# Altium footprint library WL-T7DS.PcbLib: 3 footprints
Each footprint in its own frame and in the unit in brackets; x right, y up, seen from the top. Pads: shape width x height; smd on the part's side, far side on the other; paste and mask are expansions set on the pad; w line width, h text height; cw(c..) or ccw(c..) is an arc to the next point about the centre after c.
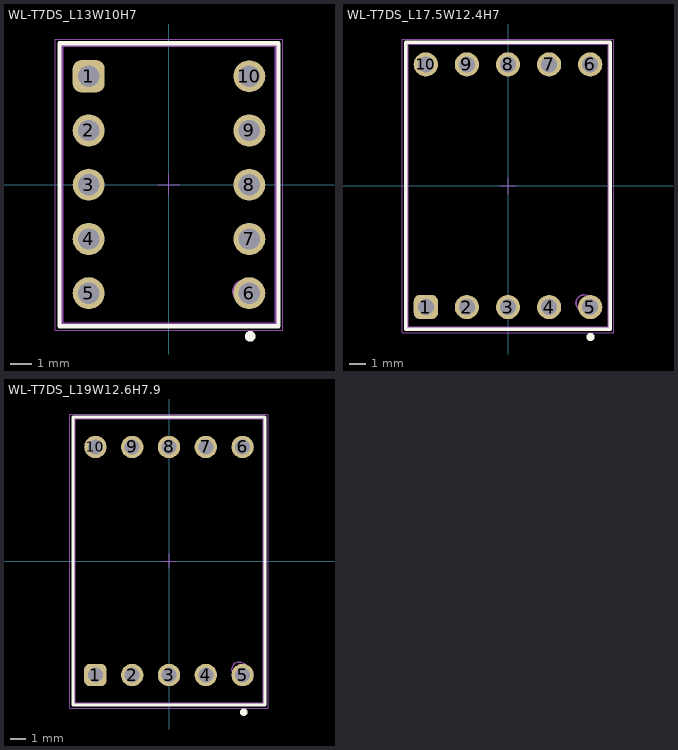
[diagram p0: the footprints below, top view; thin cyan lines are the x and y axes]

## WL-T7DS_L13W10H7 [mm] "7 Segments Display THT Single Digit , body 10x13mm"
height 7.25
pads (10):
  rrect50% 1.5x1.5 hole 1: 1(-3.76,5.08)
  round 1.5 hole 1: 2(-3.76,2.54) 3(-3.76,0) 4(-3.76,-2.54) 5(-3.76,-5.08) 6(3.76,-5.08) 7(3.76,-2.54) 8(3.76,0) 9(3.76,2.54) 10(3.76,5.08)
Top Overlay:
  circle w0.25: c3.8,-7.1 r0.125
  lines w0.2: -5.125,-6.625 5.125,-6.625 5.125,6.625 -5.125,6.625 -5.125,-6.625
Top Designator:
  text ".Designator" at -7.498,-0.5 h1.5
Top Component Outline:
  circle w0.1: c3.5,-5 r0.5
  lines w0.1: -5,-6.5 5,-6.5 5,6.5 -5,6.5 -5,-6.5
Top 3D Body:
  circle w0.1: c3.5,-5 r0.5
  lines w0.1: -5,-6.5 5,-6.5 5,6.5 -5,6.5 -5,-6.5
Top Courtyard:
  lines w0.05: -0.5,0 0.5,0 ; 0,-0.5 0,0.5 ; -5.325,-6.825 5.325,-6.825 5.325,6.825 -5.325,6.825 -5.325,-6.825
3D body "STP_WL-T7DS_0_39 (rev1).stp": height 7.1, standoff -3.9, extent -5,-6.5 5,6.5

## WL-T7DS_L17.5W12.4H7 [mm] "7 Segments Display THT Single Digit , body 12.4x17.5mm"
height 7.25
pads (10):
  rrect50% 1.5x1.5 hole 1: 1(-5.08,-7.5)
  round 1.5 hole 1: 2(-2.54,-7.5) 3(0,-7.5) 4(2.54,-7.5) 5(5.08,-7.5) 6(5.08,7.5) 7(2.54,7.5) 8(0,7.5) 9(-2.54,7.5) 10(-5.08,7.5)
Top Overlay:
  circle w0.25: c5.1,-9.35 r0.125
  lines w0.2: -6.325,-8.875 6.325,-8.875 6.325,8.875 -6.325,8.875 -6.325,-8.875
Top Designator:
  text ".Designator" at -7.498,-0.5 h1.5
Top Component Outline:
  circle w0.1: c4.7,-7.25 r0.5
  lines w0.1: -6.2,-8.75 6.2,-8.75 6.2,8.75 -6.2,8.75 -6.2,-8.75
Top 3D Body:
  circle w0.1: c4.7,-7.25 r0.5
  lines w0.1: -6.2,-8.75 6.2,-8.75 6.2,8.75 -6.2,8.75 -6.2,-8.75
Top Courtyard:
  lines w0.05: -0.5,0 0.5,0 ; 0,-0.5 0,0.5 ; -6.525,-9.075 6.525,-9.075 6.525,9.075 -6.525,9.075 -6.525,-9.075
3D body "STP_WL-T7DS_0_52 (rev1).stp": height 7.1, standoff -4.2, extent -6.2,-8.75 6.2,8.75

## WL-T7DS_L19W12.6H7.9 [mm] "7 Segments Display THT Single Digit , body 12.6x19mm"
height 8.25
pads (10):
  rrect50% 1.5x1.5 hole 1: 1(-4.92,-7.62)
  round 1.5 hole 1: 2(-2.46,-7.62) 3(0,-7.62) 4(2.46,-7.62) 5(4.92,-7.62) 6(4.92,7.62) 7(2.46,7.62) 8(0,7.62) 9(-2.46,7.62) 10(-4.92,7.62)
Top Overlay:
  circle w0.25: c5,-10.1 r0.125
  lines w0.2: -6.425,-9.625 -6.425,9.625 6.425,9.625 6.425,-9.625 -6.425,-9.625
Top Designator:
  text ".Designator" at -7.498,-0.5 h1.5
Top Component Outline:
  circle w0.1: c4.7,-7.25 r0.5
  lines w0.1: -6.3,-9.5 -6.3,9.5 6.3,9.5 6.3,-9.5 -6.3,-9.5
Top 3D Body:
  circle w0.1: c4.7,-7.25 r0.5
  lines w0.1: -6.3,-9.5 -6.3,9.5 6.3,9.5 6.3,-9.5 -6.3,-9.5
Top Courtyard:
  lines w0.05: -0.5,0 0.5,0 ; 0,-0.5 0,0.5 ; -6.625,-9.825 -6.625,9.825 6.625,9.825 6.625,-9.825 -6.625,-9.825
3D body "STP_WL-T7DS_0_56_157142x12803_157142x12703 (rev1).stp": height 8.1, standoff -4.2, extent -6.3,-9.5 6.3,9.5